# EAGLE library part FH12-8S-1SH_55__LCSC (library lcsc_parts)
Description: FFC/FPC Connector 8 Position 1mm Pitch Bottom Contact Surface Mount, Right Angle -40℃~+85℃ Manufacturer: HRS MPN: FH12-8S-1SH(55) LCSC Part: C596711 Category: FFC, FPC (Flat Flexible) Connector Assemblies Datasheet: https://datasheet.lcsc.com/datasheet/pdf/d94fc40ed70f809326546925622a76ed.pdf?productCode=C596711
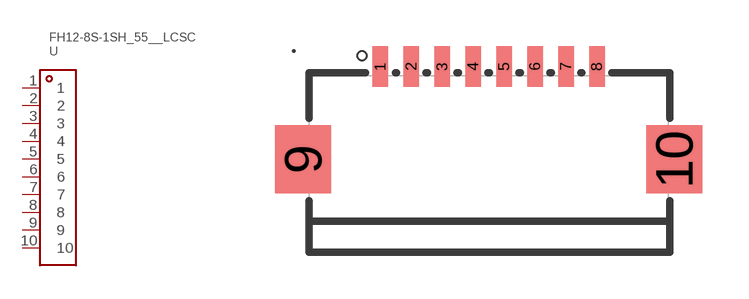
[diagram p11: symbol with the pads of FPC-SMD_8P-P1.00_FH12S-8S-1SH-55; footprint FPC-SMD_8P-P1.00_FH12S-8S-1SH-55]

Designator prefix U

## FH12-8S-1SH_55__LCSC (CATEGORY: FFC, FPC (Flat Flexible) Connector Assemblies; CONTACT_MATERIAL: Phosphor bronze; CONTACT_PLATING: Gold; CONTACT_TYPE: Bottom Contact; DATASHEET: https://datasheet.lcsc.com/datasheet/pdf/d94fc40ed70f809326546925622a76ed.pdf?productCode=C596711; DESCRIPTION: FFC/FPC Connector 8 Position 1mm Pitch Bottom Contact Surface Mount, Right Angle -40℃~+85℃; FFC_FCB_THICKNESS: 0.3mm; LCSC_PART: C596711; LCSC_STOCK: 1085; LOCKING_FEATURE: Hinged Lid; MANUFACTURER: HRS; MOUNTING_TYPE: Surface Mount, Right Angle; MPN: FH12-8S-1SH(55); NUMBER_OF_CONTACTS: 8P; OPERATING_TEMPERATURE: -40℃~+85℃; PARTNO: FH12-8S-1SH(55); PITCH: 1mm; PRICING_1000: $0.2274/unit @ 1000; PRICING_50: $0.3054/unit @ 50)  [FPC-SMD_8P-P1.00_FH12S-8S-1SH-55]
1  1
2  2
3  3
4  4
5  5
6  6
7  7
8  8
9  9
10  10

## Footprint FPC-SMD_8P-P1.00_FH12S-8S-1SH-55 (pad centres in mm)
smd 0.5 x 1.3: 1 -3.5,1.5; 2 -2.5,1.5; 3 -1.5,1.5; 4 -0.5,1.5; 5 0.5,1.5; 6 1.5,1.5; 7 2.5,1.5; 8 3.5,1.5
smd 1.8 x 2.2: 9 -6,-1.5; 10 6,-1.5